# EAGLE library part LM2675 (library IC)
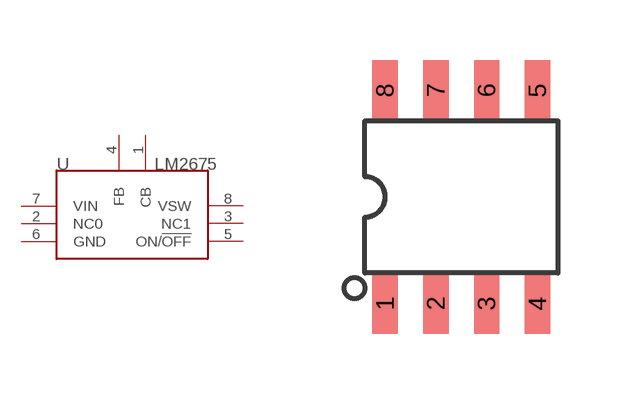
[diagram p62: symbol with the pads of SOP8; footprint SOP8]

Designator prefix U

## LM2675  [SOP8]
1  CB
2  NC0
3  NC1
4  FB
5  ON/!OFF
6  GND
7  VIN
8  VSW

## Footprint SOP8 (pad centres in mm)
SMALL OUTLINE PACKAGE
smd 0.635 x 1.524: 1 -1.905,-2.667; 2 -0.635,-2.667; 3 0.635,-2.667; 4 1.905,-2.667; 5 1.905,2.667; 6 0.635,2.667; 7 -0.635,2.667; 8 -1.905,2.667